# EAGLE library part TPS63001 (library GPS_Hemisphere)
High efficiency buck boost SPS
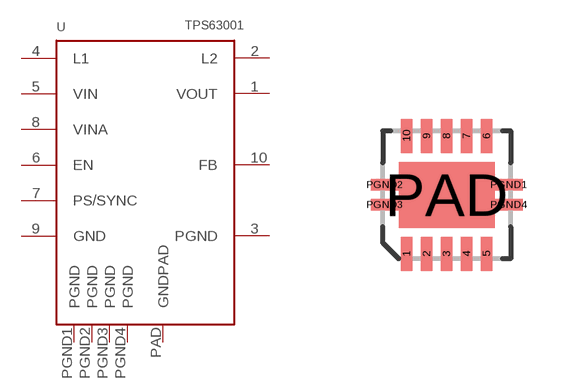
[diagram p1: symbol with the pads of TPS63001; footprint TPS63001]

Designator prefix U

## TPS63001  [TPS63001]
1  VOUT
2  L2
3  PGND
4  L1
5  VIN
6  EN
7  PS/SYNC
8  VINA
9  GND
10  FB
PAD  GNDPAD
PGND1  PGND
PGND2  PGND
PGND3  PGND
PGND4  PGND

## Footprint TPS63001 (pad centres in mm)
smd 0.28 x 0.85: 1 -1,-1.475; 2 -0.5,-1.475; 3 0,-1.475; 4 0.5,-1.475; 5 1,-1.475; 6 1,1.475; 7 0.5,1.475; 8 0,1.475; 9 -0.5,1.475; 10 -1,1.475
smd 2.4 x 1.65: PAD 0,0
smd 0.7 x 0.28: PGND1 1.55,0.25; PGND2 -1.55,0.25; PGND3 -1.55,-0.25; PGND4 1.55,-0.25